# Altium integrated library power-regulator.IntLib: 13 symbols
Pins are listed as number, name and electrical type; pins without a type are passive.

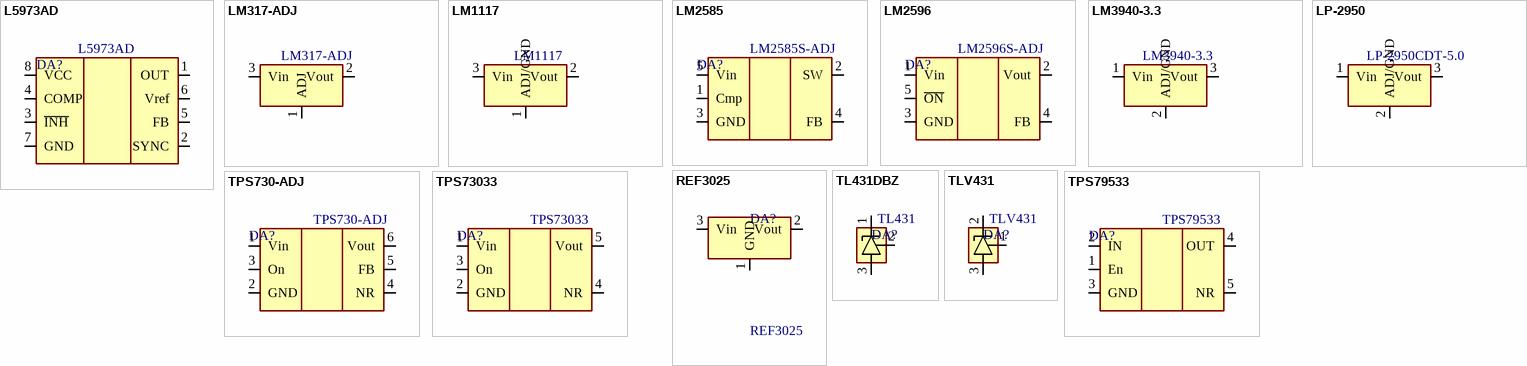
[diagram p0: symbols L5973AD to TPS79533]

## L5973AD
designator DA?
Step-down 4..36V 2A 500kHz; Power/Voltage: 2W; Value: 3.3V; RevisionDate: 20-11-2018; ManufacturerPartNumber: L5973AD; Package: HSOP-8; Name: L5973AD
footprint HSOP-8 (SOIC, 8-Leads, Body 4,90x3,95mm, Pitch 1,27mm, IPC Medium Density)
pins: 1 OUT, 2 SYNC, 3 ~{INH}, 4 COMP, 5 FB, 6 Vref, 7 GND, 8 VCC

## LM317-ADJ
designator DA?
LDO Adjustable 32V 1A; Value: *; RevisionDate: 11-01-2018; Name: LM317-ADJ
footprint SOT-89 (SOT89, 3-Leads, Body 4,50x2,50mm, Pitch 1,50mm, Lead Span 4,1mm, IPC Medium Density)
footprint TO-252-3/DPAK (D-PAK, 3-Pads, Body 6,20x6,71mm (max), IPC Medium Density)
footprint TO-220 (TO, Thru-Hole, Vertical, Heatsink Mounted; 3 In-Line Leads; Pitch 2.54 mm)
pins: 1 ADJ, 2 Vout, 3 Vin

## LM1117
designator DA?
LDO 20V 0.7A; Value: *; RevisionDate: 11-01-2018; Name: LM1117
footprint SOT-223 (SOT223, 4-Leads, Body 6,50x7,00mm (avg), Pitch 2,30mm, IPC Medium Density)
footprint TO-252-3/DPAK (D-PAK, 3-Pads, Body 6,20x6,71mm (max), IPC Medium Density)
pins: 1 ADJ/GND, 2 Vout, 3 Vin

## LM2585
designator DA?, comment LM2585S-ADJ
Step-up 40V 3A 100kHz; Value: *; RevisionDate: *; Name: LM2585S-ADJ
footprint TO-263-5P/D2PAK-5
pins: 1 Cmp, 2 SW, 3 GND, 4 FB, 5 Vin

## LM2596
designator DA?, comment LM2596S-ADJ
Step-down 37V 3A 150kHz; Value: *; RevisionDate: *; Name: LM2596S-ADJ
footprint TO-263-5P/D2PAK-5
pins: 1 Vin, 2 Vout, 3 GND, 4 FB, 5 ~{ON}

## LM3940-3.3
designator DA?
LDO 5.5Vin 3.3Vout; Value: *; RevisionDate: 11-01-2018; Name: LM3940-3.3
footprint SOT-223 (SOT223, 4-Leads, Body 6,50x7,00mm (avg), Pitch 2,30mm, IPC Medium Density)
footprint TO-252-3/DPAK (D-PAK, 3-Pads, Body 6,20x6,71mm (max), IPC Medium Density)
pins: 1 Vin, 2 ADJ/GND, 3 Vout

## LP-2950
designator DA?, comment LP-2950CDT-5.0
LDO 30Vin 5.0Vout; Value: *; RevisionDate: 11-01-2018; Name: LP-2950CDT-5.0
footprint TO-92-2.54
footprint TO-252-3/DPAK (D-PAK, 3-Pads, Body 6,20x6,71mm (max), IPC Medium Density)
footprint TO-220 (TO, Thru-Hole, Vertical, Heatsink Mounted; 3 In-Line Leads; Pitch 2.54 mm)
footprint TO-263-3P/D2PAK
pins: 1 Vin, 2 ADJ/GND, 3 Vout

## REF3025
designator DA?
2.5V Reference 6Vin; Value: 2.5V; RevisionDate: *; Name: REF3025
footprint SOT-23 (SOT23, 3-Leads, Body 2,90x2,40mm, Pitch 0,95mm, IPC Medium Density)
pins: 1 GND, 2 Vout, 3 Vin

## TL431DBZ
designator DA?, comment TL431
2.5V Reference 36Vin; Value: *; RevisionDate: *; Name: TL431
footprint SOT-23 (SOT23, 3-Leads, Body 2,90x2,40mm, Pitch 0,95mm, IPC Medium Density)
pins: 1 K, 2 REF, 3 A

## TLV431
designator DA?
1.25V Reference 6Vin; ManufacturerPartNumber: TLV431BSN1T1G; Value: 1.25V; RevisionDate: *; Name: TLV431
footprint SOT-23 (SOT23, 3-Leads, Body 2,90x2,40mm, Pitch 0,95mm, IPC Medium Density)
pins: 1 REF, 2 K, 3 A

## TPS730-ADJ
designator DA?  Name: TPS730-ADJ  (hidden comment: *)
LDO Adjustable 5.5Vin; Value: *; RevisionDate: *
footprint SOT-26 (SOT23, 6-Leads, Body 3,00x2,85mm, Pitch 0,95mm, IPC Medium Density)
pins: 1 Vin, 2 GND, 3 On, 4 NR, 5 FB, 6 Vout

## TPS73033
designator DA?
LDO 5.5Vin 3.3Vout; Value: 3.3V; RevisionDate: *; Name: TPS73033
footprint SOT-25 (SOT23, 5-Leads, Body 3,00x2,85mm, Pitch 0,95mm, IPC Medium Density)
pins: 1 Vin, 2 GND, 3 On, 4 NR, 5 Vout

## TPS79533
designator DA?
LDO 5.5Vin 3.3Vout; Value: 3.3V; RevisionDate: 01-02-2018; Name: TPS79533
footprint SOT-223-6 (SOT223, 4-Leads, Body 6,50x7,00mm (avg), Pitch 2,30mm, IPC Medium Density)
pins: 1 En, 2 IN, 3 GND, 4 OUT, 5 NR